# EAGLE library part DS-08 (library BW-PassiveMechanical)
8x DIP switches
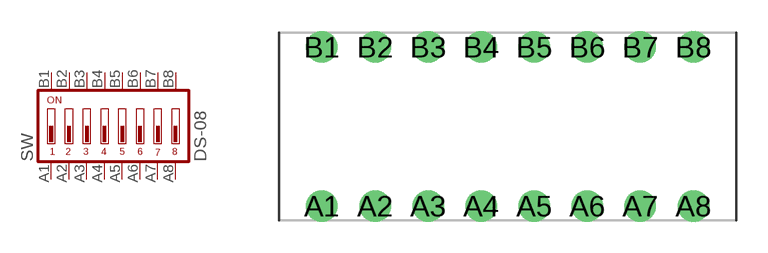
[diagram p1: symbol with the pads of DIPSW-08; footprint DIPSW-08]

Designator prefix SW

## DS-08  [DIPSW-08]
A1  1  pas
A2  2  pas
A3  3  pas
A4  4  pas
A5  5  pas
A6  6  pas
A7  7  pas
A8  8  pas
B1  16  pas
B2  15  pas
B3  14  pas
B4  13  pas
B5  12  pas
B6  11  pas
B7  10  pas
B8  9  pas

## Footprint DIPSW-08 (pad centres in mm)
drill 1: A1 -8.89,-3.81; A2 -6.35,-3.81; A3 -3.81,-3.81; A4 -1.27,-3.81; A5 1.27,-3.81; A6 3.81,-3.81; A7 6.35,-3.81; A8 8.89,-3.81; B1 -8.89,3.81; B2 -6.35,3.81; B3 -3.81,3.81; B4 -1.27,3.81; B5 1.27,3.81; B6 3.81,3.81; B7 6.35,3.81; B8 8.89,3.81